# EAGLE library part SSW-144-02-S-S (library con-samtec)
THROUGH-HOLE .025" SQ POST SOCKET Source: Samtec SSW.pdf
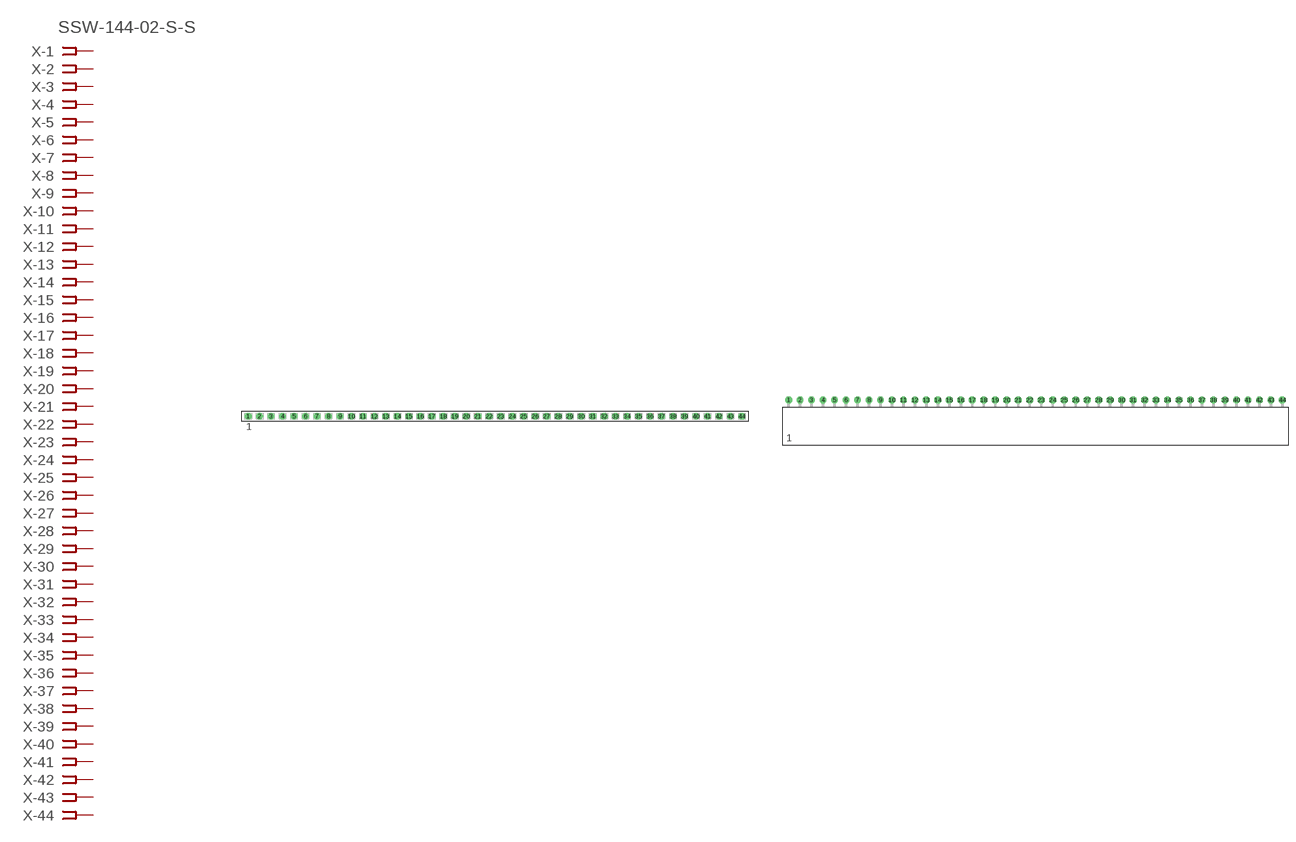
[diagram p60: symbol with the pads of SSW-144-02-S-S; footprints SSW-144-02-S-S, SSW-144-02-S-S-RA]

Designator prefix X; gates -1=FPINV -2=FPIN -3=FPIN -4=FPIN -5=FPIN -6=FPIN -7=FPIN -8=FPIN -9=FPIN -10=FPIN -11=FPIN -12=FPIN -13=FPIN -14=FPIN -15=FPIN -16=FPIN -17=FPIN -18=FPIN -19=FPIN -20=FPIN -21=FPIN -22=FPIN -23=FPIN -24=FPIN -25=FPIN -26=FPIN -27=FPIN -28=FPIN -29=FPIN -30=FPIN -31=FPIN -32=FPIN -33=FPIN -34=FPIN -35=FPIN -36=FPIN -37=FPIN -38=FPIN -39=FPIN -40=FPIN -41=FPIN -42=FPIN -43=FPIN -44=FPIN

## SSW-144-02-S-S  [SSW-144-02-S-S]
1  -1:1  pas
2  -2:1  pas
3  -3:1  pas
4  -4:1  pas
5  -5:1  pas
6  -6:1  pas
7  -7:1  pas
8  -8:1  pas
9  -9:1  pas
10  -10:1  pas
11  -11:1  pas
12  -12:1  pas
13  -13:1  pas
14  -14:1  pas
15  -15:1  pas
16  -16:1  pas
17  -17:1  pas
18  -18:1  pas
19  -19:1  pas
20  -20:1  pas
21  -21:1  pas
22  -22:1  pas
23  -23:1  pas
24  -24:1  pas
25  -25:1  pas
26  -26:1  pas
27  -27:1  pas
28  -28:1  pas
29  -29:1  pas
30  -30:1  pas
31  -31:1  pas
32  -32:1  pas
33  -33:1  pas
34  -34:1  pas
35  -35:1  pas
36  -36:1  pas
37  -37:1  pas
38  -38:1  pas
39  -39:1  pas
40  -40:1  pas
41  -41:1  pas
42  -42:1  pas
43  -43:1  pas
44  -44:1  pas

## SSW-144-02-S-S-RA  [SSW-144-02-S-S-RA]
Pads as for SSW-144-02-S-S

## Footprint SSW-144-02-S-S (pad centres in mm)
THROUGH-HOLE .025" SQ POST SOCKET Source: Samtec SSW.pdf
drill 1 pad 1.5 octagon: 1 -54.61,0; 2 -52.07,0; 3 -49.53,0; 4 -46.99,0; 5 -44.45,0; 6 -41.91,0; 7 -39.37,0; 8 -36.83,0; 9 -34.29,0; 10 -31.75,0; 11 -29.21,0; 12 -26.67,0; 13 -24.13,0; 14 -21.59,0; 15 -19.05,0; 16 -16.51,0; 17 -13.97,0; 18 -11.43,0; 19 -8.89,0; 20 -6.35,0; 21 -3.81,0; 22 -1.27,0; 23 1.27,0; 24 3.81,0; 25 6.35,0; 26 8.89,0; 27 11.43,0; 28 13.97,0; 29 16.51,0; 30 19.05,0; 31 21.59,0; 32 24.13,0; 33 26.67,0; 34 29.21,0; 35 31.75,0; 36 34.29,0; 37 36.83,0; 38 39.37,0; 39 41.91,0; 40 44.45,0; 41 46.99,0; 42 49.53,0; 43 52.07,0; 44 54.61,0

## Footprint SSW-144-02-S-S-RA (pad centres in mm)
THROUGH-HOLE .025" SQ POST SOCKET Source: Samtec SSW.pdf
drill 1 pad 1.5 octagon: 1 -54.61,1.524; 2 -52.07,1.524; 3 -49.53,1.524; 4 -46.99,1.524; 5 -44.45,1.524; 6 -41.91,1.524; 7 -39.37,1.524; 8 -36.83,1.524; 9 -34.29,1.524; 10 -31.75,1.524; 11 -29.21,1.524; 12 -26.67,1.524; 13 -24.13,1.524; 14 -21.59,1.524; 15 -19.05,1.524; 16 -16.51,1.524; 17 -13.97,1.524; 18 -11.43,1.524; 19 -8.89,1.524; 20 -6.35,1.524; 21 -3.81,1.524; 22 -1.27,1.524; 23 1.27,1.524; 24 3.81,1.524; 25 6.35,1.524; 26 8.89,1.524; 27 11.43,1.524; 28 13.97,1.524; 29 16.51,1.524; 30 19.05,1.524; 31 21.59,1.524; 32 24.13,1.524; 33 26.67,1.524; 34 29.21,1.524; 35 31.75,1.524; 36 34.29,1.524; 37 36.83,1.524; 38 39.37,1.524; 39 41.91,1.524; 40 44.45,1.524; 41 46.99,1.524; 42 49.53,1.524; 43 52.07,1.524; 44 54.61,1.524